# Altium footprint library d203.PcbLib: 102 footprints (part 1 of 7)
Each footprint in its own frame and in the unit in brackets; x right, y up, seen from the top. Pads: shape width x height; smd on the part's side, far side on the other; paste and mask are expansions set on the pad; w line width, h text height; cw(c..) or ccw(c..) is an arc to the next point about the centre after c.
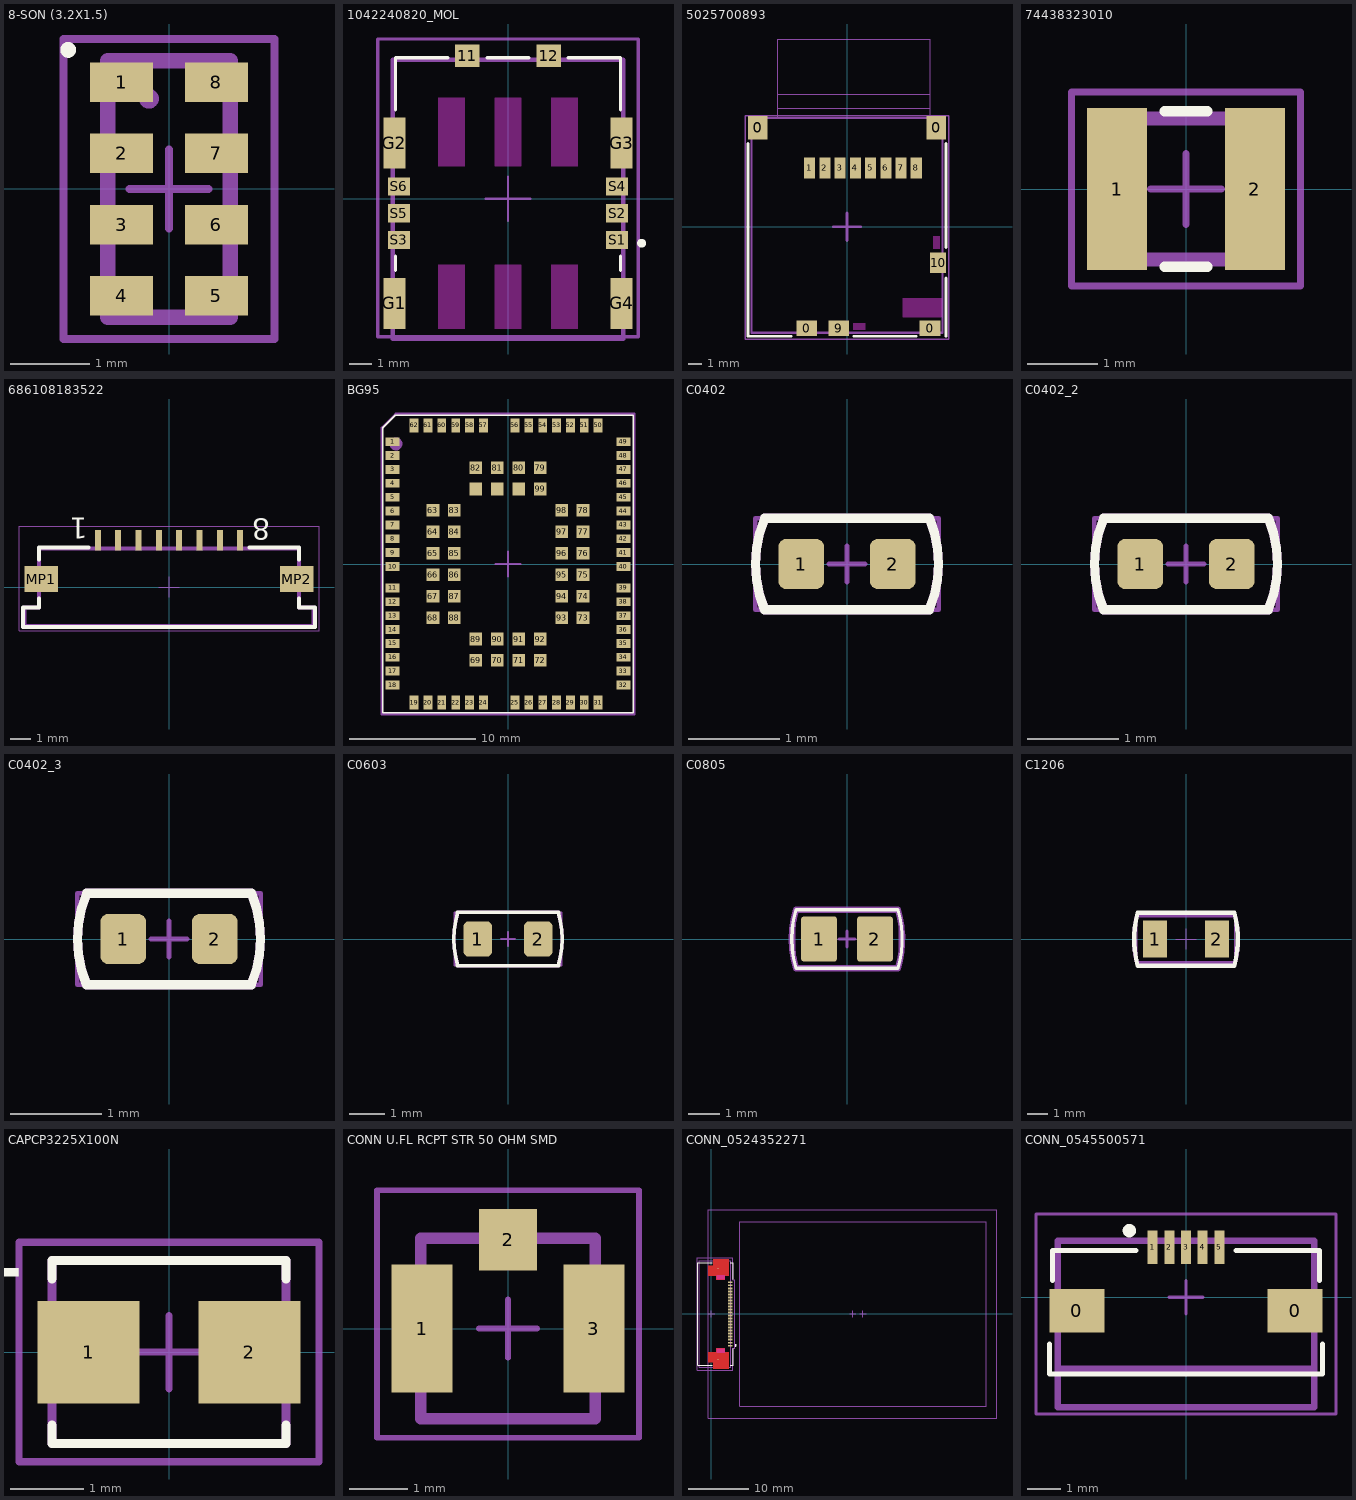
[diagram p0: the footprints below, top view; thin cyan lines are the x and y axes]

## 8-SON (3.2X1.5) [mm]
pads (8):
  rect 0.8x0.5 smd: 1(-0.6,1.35) 2(-0.6,0.45) 3(-0.6,-0.45) 4(-0.6,-1.35) 5(0.6,-1.35) 6(0.6,-0.45) 7(0.6,0.45) 8(0.6,1.35)
Top Overlay:
  circle w0.1: c-1.277,1.762 r0.05
Mechanical 14:
  circle w0.15: c-0.254,1.143 r0.05
  lines w0.2: -0.775,-1.625 0.775,-1.625 0.775,1.625 -0.775,1.625 -0.775,-1.625
  text "'.Designator'" at -0.254,1.27 h0.5
Mechanical 15:
  lines w0.1: -0.5,0 0.5,0 ; 0,-0.5 0,0.5 ; -1.335,-1.9 1.335,-1.9 1.335,1.9 -1.335,1.9 -1.335,-1.9
3D body "SON90P150X80_HS-9N.step": height 0.8, standoff 0, extent -0.775,-1.625 0.775,1.625

## 1042240820_MOL [mm]
pads (12):
  rect 1.1x1 smd: 11(-1.82,6.425) 12(1.82,6.425)
  rect 1x2.3 smd: G1(-5.1,-4.7) G2(-5.1,2.5) G3(5.1,2.5) G4(5.1,-4.7)
  rect 1x0.8 smd paste+0: S1(4.9,-1.85)
  rect 1x0.813 smd paste+0: S2(4.9,-0.65) S3(-4.9,-1.85) S4(4.9,0.55) S5(-4.9,-0.65) S6(-4.9,0.55)
Top Layer keep-out:
  rectangle: -3.14,1.45 -1.94,4.55
  rectangle: 1.94,1.45 3.14,4.55
  rectangle: -0.6,1.45 0.6,4.55
  rectangle: -3.14,-5.85 -1.94,-2.95
  rectangle: 1.94,-5.85 3.14,-2.95
  rectangle: -0.6,-5.85 0.6,-2.95
Top Overlay:
  circle w0.2: c6,-1.998 r0.1
  lines w0.152: -5.055,-3.212 -5.055,-2.589 ; -5.055,3.988 -5.055,6.327 -2.699,6.327 ; -0.941,6.327 0.941,6.327 ; 2.699,6.327 5.055,6.327 5.055,3.988 ; 5.055,-3.212 5.055,-2.589
Mechanical 14:
  lines w0.2: -5.175,-6.3 -5.175,6.25 5.175,6.25 5.175,-6.3 -5.175,-6.3
  text "S6" at -3.937,0.254 h0.5
  text "S5" at -3.937,-0.889 h0.5
  text "S4" at 4.699,0.254 h0.5
  text "S3" at -3.937,-2.159 h0.5
  text "S2" at 4.699,-0.889 h0.5
  text "S1" at 4.826,-2.159 h0.5
  text "'.Designator'" at -0.785,-2.085 h0.5
Mechanical 15:
  lines w0.1: -1,0 1,0 ; 0,-1 0,1
  lines w0.152: -5.849,-6.2 5.849,-6.2 5.849,7.174 -5.849,7.174 -5.849,-6.2
3D body "1042240820.stp": height 1.03, standoff -0.08, extent -5.175,-6.3 5.175,6.25

## 5025700893 [mm]
pads (14):
  rect 1.4x1.7 smd: 0(-6.45,7.15) 0(6.45,7.15)
  rect 1.5x1.15 smd: 0(-2.9,-7.325) 0(6,-7.325) 9(-0.6,-7.325)
  rect 0.8x1.5 smd: 1(-2.7,4.25) 2(-1.6,4.25) 3(-0.5,4.25) 4(0.6,4.25) 5(1.7,4.25) 6(2.8,4.25) 7(3.9,4.25) 8(5,4.25)
  rect 1.15x1.5 smd: 10(6.575,-2.6)
Top Layer keep-out:
  rectangle: 0.45,-7.45 1.35,-6.95
  rectangle: 4,-6.55 6.9,-5.15
  rectangle: 6.199,-1.6 6.699,-0.65
Top Overlay:
  lines w0.2: -7.15,6 -7.15,-7.9 -4.025,-7.9 ; 0.5,-7.9 4.975,-7.9 ; 7.15,-7.9 7.15,-3.7 ; 7.15,-1.5 7.15,6
Mechanical 14:
  lines w0.05: -5,7.85 -5,13.55 6,13.55 6,7.85 ; -5,8.55 6,8.55 ; -5,9.55 6,9.55
  lines w0.152: -6.9,-7.65 -6.9,7.85 6.9,7.85 6.9,-7.65 -6.9,-7.65
  text "'.Designator'" at -4.191,5.028 h0.5
  text "8" at 4.572,5.334 h1
  text "1" at -2.9,5.4 h1
Mechanical 15:
  lines w0.1: -7.35,-8.1 -7.35,8 7.35,8 7.35,-8.1 -7.35,-8.1
  lines w0.2: -1,0 1,0 ; 0,-1 0,1
3D body "5025700893.stp": height 1.8, standoff 0, extent -6.9,-7.65 6.9,7.85

## 74438323010 [mm]
pads (2):
  rect 0.85x2.3 smd: 1(-0.975,0) 2(0.975,0)
Top Overlay:
  lines w0.152: -0.3,-1.1 0.3,-1.1 ; -0.3,1.1 0.3,1.1
Mechanical 14:
  lines w0.2: -1.25,-1 -1.25,1 1.25,1 1.25,-1 -1.25,-1
  text ".Designator" at -1,-0.2 h0.5
Mechanical 15:
  lines w0.1: -0.5,0 0.5,0 ; 0,-0.5 0,0.5 ; -1.625,-1.375 -1.625,1.375 1.625,1.375 1.625,-1.375 -1.625,-1.375
3D body "74438323010_Download_STP_WE-MAPI-2510_rev1.stp": height 1, standoff 0, extent -1.25,-1 1.25,1

## 686108183522 [mm]
pads (10):
  rect 0.3x1 smd: 1(-3.5,2.3) 2(-2.5,2.3) 3(-1.5,2.3) 4(-0.5,2.3) 5(0.5,2.3) 6(1.5,2.3) 7(2.5,2.3) 8(3.5,2.3)
  rect 1.65x1.3 smd: MP1(-6.275,0.4) MP2(6.275,0.4)
Top Overlay:
  lines w0.2: -6.4,-0.55 -6.4,-1 -7.175,-1 -7.175,-1.95 7.175,-1.95 7.175,-1 6.4,-1 6.4,-0.55 ; -6.4,1.35 -6.4,1.95 -3.95,1.95 ; 3.95,1.95 6.4,1.95 6.4,1.35
  text "1" at -4.005,3.411 h1.02
  text "8" at 4.989,3.366 h1.02
Mechanical 14:
  lines w0.2: -7.1,-1 -6.4,-1 -6.4,1.9 6.4,1.9 6.4,-1 7.1,-1 7.1,-1.9 -7.1,-1.9 -7.1,-1 ; -7.1,-1 -7.1,-1
  text "'.Designator'" at 0.94,0.279 h0.5
  text "8" at 3.886,1.575 h1.02
  text "1" at -3.302,1.524 h1.02
Mechanical 15:
  lines w0.05: -0.5,0 0.5,0 ; 0,-0.5 0,0.5 ; -7.375,-2.15 7.375,-2.15 7.375,3 -7.375,3 -7.375,-2.15
3D body "686108183522.stp": height 1.24, standoff -0.01, extent -7.1,-1.9 7.1,2.35

## BG95 [mm]
pads (102):
  rect 1.1x0.7 smd mask+0.05: 1(-9.15,9.7) 2(-9.15,8.6) 3(-9.15,7.5) 4(-9.15,6.4) 5(-9.15,5.3) 6(-9.15,4.2) 7(-9.15,3.1) 8(-9.15,2) 9(-9.15,0.9) 10(-9.15,-0.2) 11(-9.15,-1.9) 12(-9.15,-3) 13(-9.15,-4.1) 14(-9.15,-5.2) 15(-9.15,-6.3) 16(-9.15,-7.4) 17(-9.15,-8.5) 18(-9.15,-9.6) 32(9.15,-9.6) 33(9.15,-8.5) 34(9.15,-7.4) 35(9.15,-6.3) 36(9.15,-5.2) 37(9.15,-4.1) 38(9.15,-3) 39(9.15,-1.9) 40(9.15,-0.2) 41(9.15,0.9) 42(9.15,2) 43(9.15,3.1) 44(9.15,4.2) 45(9.15,5.3) 46(9.15,6.4) 47(9.15,7.5) 48(9.15,8.6) 49(9.15,9.7)
  rect 0.7x1.1 smd mask+0.05: 19(-7.45,-11) 20(-6.35,-11) 21(-5.25,-11) 22(-4.15,-11) 23(-3.05,-11) 24(-1.95,-11) 25(0.55,-11) 26(1.65,-11) 27(2.75,-11) 28(3.85,-11) 29(4.95,-11) 30(6.05,-11) 31(7.15,-11) 50(7.15,11) 51(6.05,11) 52(4.95,11) 53(3.85,11) 54(2.75,11) 55(1.65,11) 56(0.55,11) 57(-1.95,11) 58(-3.05,11) 59(-4.15,11) 60(-5.25,11) 61(-6.35,11) 62(-7.45,11)
  rect 1x1 smd mask+0.05: 63(-5.95,4.25) 64(-5.95,2.55) 65(-5.95,0.85) 66(-5.95,-0.85) 67(-5.95,-2.55) 68(-5.95,-4.25) 69(-2.55,-7.65) 70(-0.85,-7.65) 71(0.85,-7.65) 72(2.55,-7.65) 73(5.95,-4.25) 74(5.95,-2.55) 75(5.95,-0.85) 76(5.95,0.85) 77(5.95,2.55) 78(5.95,4.25) 79(2.55,7.65) 80(0.85,7.65) 81(-0.85,7.65) 82(-2.55,7.65) 83(-4.25,4.25) 84(-4.25,2.55) 85(-4.25,0.85) 86(-4.25,-0.85) 87(-4.25,-2.55) 88(-4.25,-4.25) 89(-2.55,-5.95) 90(-0.85,-5.95) 91(0.85,-5.95) 92(2.55,-5.95) 93(4.25,-4.25) 94(4.25,-2.55) 95(4.25,-0.85) 96(4.25,0.85) 97(4.25,2.55) 98(4.25,4.25) 99(2.55,5.95) 100(0.85,5.95) 101(-0.85,5.95) 102(-2.55,5.95)
Top Overlay:
  lines w0.1: -9.95,-11.8 9.95,-11.8 9.95,11.8 -8.95,11.8 -9.95,10.8 -9.95,-11.8
Mechanical 14:
  circle w0.508: c-8.89,9.525 r0.254
  lines w0.2: -10,-11.9 10,-11.9 10,11.9 -8.9,11.9 -10,10.8 -10,-11.9
  text "'.Designator'" at -1,0 h0.5
Mechanical 15:
  lines w0.152: -1,0 1,0 ; 0,-1 0,1
3D body "LGA81C170P9X9_1990X2360X240.step": height 2.4, standoff 0, extent -10.025,-11.875 10.025,11.875

## C0402 [mm]
pads (2):
  rrect35% 0.5x0.55 smd: 1(-0.5,0) 2(0.5,0)
Top Overlay:
  lines w0.1: -0.901,-0.501 cw(c0.319,-0.004) -0.898,0.5 ; -0.9,-0.5 0.9,-0.5 ; -0.9,0.5 0.9,0.5 ; 0.898,-0.5 ccw(c-0.319,0.004) 0.901,0.501
Mechanical 14:
  lines w0.1: -0.901,-0.501 cw(c0.319,-0.004) -0.898,0.5 ; -0.9,-0.5 0.9,-0.5 ; -0.9,0.5 0.9,0.5 ; 0.898,-0.5 ccw(c-0.319,0.004) 0.901,0.501
  text ".Designator" at -0.8,-0.2 h0.5
Mechanical 15:
  lines w0.05: -1,-0.5 1,-0.5 1,0.5 -1,0.5 -1,-0.5
  lines w0.051: -0.2,0 0.2,0 ; 0,-0.2 0,0.2
3D body "C0402C104Z4VACTU.step": height 0.55, standoff 0, extent -0.525,-0.275 0.525,0.275

## C0402_2 [mm]
pads (2):
  rrect35% 0.5x0.55 smd: 1(-0.5,0) 2(0.5,0)
Top Overlay:
  lines w0.1: -0.901,-0.501 cw(c0.319,-0.004) -0.898,0.5 ; -0.9,-0.5 0.9,-0.5 ; -0.9,0.5 0.9,0.5 ; 0.898,-0.5 ccw(c-0.319,0.004) 0.901,0.501
Mechanical 14:
  lines w0.1: -0.901,-0.501 cw(c0.319,-0.004) -0.898,0.5 ; -0.9,-0.5 0.9,-0.5 ; -0.9,0.5 0.9,0.5 ; 0.898,-0.5 ccw(c-0.319,0.004) 0.901,0.501
  text ".Designator" at -0.8,-0.2 h0.5
Mechanical 15:
  lines w0.05: -1,-0.5 -1,0.5 1,0.5 1,-0.5 -1,-0.5
  lines w0.051: -0.2,0 0.2,0 ; 0,-0.2 0,0.2
3D body "C0402C104Z4VACTU.step": height 0.55, standoff 0, extent -0.525,-0.275 0.525,0.275

## C0402_3 [mm]
pads (2):
  rrect35% 0.5x0.55 smd: 1(-0.5,0) 2(0.5,0)
Top Overlay:
  lines w0.1: -0.901,-0.501 cw(c0.319,-0.004) -0.898,0.5 ; -0.9,-0.5 0.9,-0.5 ; -0.9,0.5 0.9,0.5 ; 0.898,-0.5 ccw(c-0.319,0.004) 0.901,0.501
Mechanical 14:
  lines w0.1: -0.901,-0.501 cw(c0.319,-0.004) -0.898,0.5 ; -0.9,-0.5 0.9,-0.5 ; -0.9,0.5 0.9,0.5 ; 0.898,-0.5 ccw(c-0.319,0.004) 0.901,0.501
  text ".Designator" at -0.8,-0.2 h0.5
Mechanical 15:
  lines w0.05: -1,-0.5 1,-0.5 1,0.5 -1,0.5 -1,-0.5
  lines w0.051: -0.2,0 0.2,0 ; 0,-0.2 0,0.2
3D body "C0402C104Z4VACTU.step": height 0.55, standoff 0, extent -0.525,-0.275 0.525,0.275

## C0603 [mm]
pads (2):
  rrect35% 0.8x0.991 smd: 1(-0.85,0) 2(0.85,0)
Top Overlay:
  lines w0.1: -1.416,-0.75 cw(c1.346,0) -1.416,0.75 1.416,0.75 cw(c-1.346,0) 1.416,-0.75 -1.416,-0.75
Mechanical 14:
  lines w0.1: -1.416,-0.75 cw(c1.346,0) -1.416,0.75 1.416,0.75 cw(c-1.346,0) 1.416,-0.75 -1.416,-0.75
  text ".Designator" at 1.143,0.254 h0.5
Mechanical 15:
  lines w0.05: -1.5,-0.75 -1.5,0.75 1.5,0.75 1.5,-0.75 -1.5,-0.75
  lines w0.051: -0.2,0 0.2,0 ; 0,-0.2 0,0.2
3D body "C0603C103M5RACTU.step": height 0.87, standoff 0, extent -0.875,-0.475 0.875,0.475

## C0805 [mm]
pads (2):
  rrect15% 1.15x1.45 smd: 1(-0.9,0) 2(0.9,0)
Top Overlay:
  lines w0.1: -1.64,-0.94 1.638,-0.94 ; -1.64,-0.937 cw(c1.524,0) -1.64,0.938 ; -1.64,0.94 1.64,0.94 ; 1.638,-0.945 ccw(c-1.524,0) 1.64,0.938
Mechanical 14:
  lines w0.2: -1.64,-0.94 1.638,-0.94 ; -1.64,-0.937 cw(c1.524,0) -1.64,0.938 ; -1.64,0.94 1.64,0.94 ; 1.638,-0.945 ccw(c-1.524,0) 1.64,0.938
  text ".Designator" at -0.762,-0.254 h0.5
Mechanical 15:
  lines w0.1: -0.25,0 0.25,0 ; 0,-0.25 0,0.25 ; -1.7,-0.889 1.7,-0.889 1.7,0.889 -1.7,0.889 -1.7,-0.889
3D body "C0805C101JAGACTU.step": height 0.88, standoff 0, extent -1.1,-0.725 1.1,0.725

## C1206 [mm]
pads (2):
  rect 1.15x1.8 smd: 1(-1.5,0) 2(1.5,0)
Top Overlay:
  lines w0.2: -2.345,1.262 ccw(c2.375,0) -2.338,-1.285 ; -2.345,1.27 2.345,1.27 ; -2.338,-1.295 2.338,-1.295 ; 2.338,-1.285 ccw(c-2.375,0) 2.345,1.262
Mechanical 14:
  lines w0.2: -2.375,-1.168 2.375,-1.168 ; -2.369,-1.167 cw(c2.375,0) -2.375,1.143 2.375,1.143 cw(c-2.375,0) 2.369,-1.167
  text ".Designator" at -1,-0.2 h0.5
Mechanical 15:
  lines w0.05: -0.5,0 0.5,0 ; 0,-0.5 0,0.5 ; -2.35,-1.15 2.35,-1.15 2.35,1.15 -2.35,1.15 -2.35,-1.15
3D body "C1206C102KGRACAUTO.step": height 1.75, standoff 0, extent -1.7,-0.889 1.7,0.911

## CAPCP3225X100N [mm]
pads (2):
  rect 1.4x1.4 smd: 1(-1.1,0) 2(1.1,0)
Top Overlay:
  lines w0.127: -1.6,-1 -1.6,-1.25 1.6,-1.25 1.6,-1 ; -1.6,1 -1.6,1.25 1.6,1.25 1.6,1
  text "+" at -1.905,1.524 h1.02
Mechanical 14:
  lines w0.127: -1.6,-1.25 -1.6,1.25 1.6,1.25 1.6,-1.25 -1.6,-1.25
  text "'.Designator'" at 0.762,0.127 h0.5
  text "+" at -2.54,0.508 h1.02
Mechanical 15:
  lines w0.1: -0.5,0 0.5,0 ; 0,-0.5 0,0.5 ; -2.05,-1.5 -2.05,1.5 2.05,1.5 2.05,-1.5 -2.05,-1.5
3D body "CPH3225A--3DModel-STEP-56544.STEP": height 1, standoff 0, extent -1.6,-1.25 1.6,1.25

## CONN U.FL RCPT STR 50 OHM SMD [mm]
pads (3):
  rect 1.05x2.2 smd: 1(-1.475,0) 3(1.475,0)
  rect 1x1.05 smd: 2(0,1.525)
Mechanical 14:
  lines w0.2: -1.5,-1.55 -1.5,1.55 1.5,1.55 1.5,-1.55 -1.5,-1.55
  text ".Designator" at 0.254,-0.635 h0.5
Mechanical 15:
  lines w0.1: -0.5,0 0.5,0 ; 0,-0.5 0,0.5 ; -2.25,-1.875 -2.25,2.375 2.25,2.375 2.25,-1.875 -2.25,-1.875
3D body "U.FL-R-SMT-1.stp": height 1.25, standoff 0, extent -1.5,-1.55 1.5,1.55

## CONN_0524352271 [mm]
pads (24):
  rect 0.8x0.3 smd mask+0.05: 1(3.1,-5.25) 2(3.1,-4.75) 3(3.1,-4.25) 4(3.1,-3.75) 5(3.1,-3.25) 6(3.1,-2.75) 7(3.1,-2.25) 8(3.1,-1.75) 9(3.1,-1.25) 10(3.1,-0.75) 11(3.1,-0.25) 12(3.1,0.25) 13(3.1,0.75) 14(3.1,1.25) 15(3.1,1.75) 16(3.1,2.25) 17(3.1,2.75) 18(3.1,3.25) 19(3.1,3.75) 20(3.1,4.25) 21(3.1,4.75) 22(3.1,5.25)
  rect 0.2x0.2 smd mask+0.05: 23(1.1,7.55) 24(1.1,-7.55)
Top Layer:
  region: 2.7,6.5 2.7,8.9 0.5,8.9 0.5,7.8 -0.35,7.8 -0.35,6.5
  region: 2.7,-6.5 2.7,-8.9 0.5,-8.9 0.5,-7.8 -0.35,-7.8 -0.35,-6.5
  pour cut-out: -0.55,6.3 -0.55,8 0.3,8 0.3,9.1 2.9,9.1 2.9,6.3 2.2,6.3 2.2,5.7 0.8,5.7 0.8,6.3
  pour cut-out: -0.55,-6.3 -0.55,-8 0.3,-8 0.3,-9.1 2.9,-9.1 2.9,-6.3 2.2,-6.3 2.2,-5.7 0.8,-5.7 0.8,-6.3
Top Layer keep-out:
  rectangle: 0.8,5.7 2.2,6.5
  rectangle: 0.8,-6.5 2.2,-5.7
Top Overlay:
  circle w0.2: c4.005,-5.207 r0.1
  lines w0.152: 0.1,-8.5 -2.3,-8.5 -2.3,8.5 0.1,8.5 ; 3.1,-8.5 3.6,-8.5 3.6,-5.761 ; 3.1,8.5 3.6,8.5 3.6,5.761
Top Paste:
  region: 2.7,-6.5 2.7,-8.9 0.5,-8.9 0.5,-7.8 -0.35,-7.8 -0.35,-6.5
  region: 2.7,6.5 2.7,8.9 0.5,8.9 0.5,7.8 -0.35,7.8 -0.35,6.5
Top Solder:
  region: 2.75,6.45 2.75,8.95 0.45,8.95 0.45,7.85 -0.4,7.85 -0.4,6.45
  region: 2.75,-6.45 2.75,-8.95 0.45,-8.95 0.45,-7.85 -0.4,-7.85 -0.4,-6.45
Mechanical 14:
  lines w0.2: -2,-8.8 -2,8.8 3.2,8.8 3.2,-8.8 -2,-8.8
  text "'.Designator'" at -0.375,0.705 h0.5
  text "1" at 1.465,-5.08 h1
  text "22" at 1.465,5.969 h1
Mechanical 15:
  lines w0.1: -0.5,0 0.5,0 ; 0,-0.5 0,0.5
  lines w0.152: -2.4,-9.3 -2.4,9.3 3.554,9.3 3.554,5.682 3.875,5.682 3.875,-5.682 3.554,-5.682 3.554,-9.3 3.1,-9.3 0.1,-9.3 -2.4,-9.3
Mechanical 19:
  lines w0.2: 22.9,0 23.9,0 ; 23.4,-0.5 23.4,0.5 ; 24.6,0 25.6,0 ; 25.1,-0.5 25.1,0.5 ; -0.5,-17.3 47.3,-17.3 47.3,17.3 -0.5,17.3 -0.5,-17.3 ; 4.7,-15.3 45.5,-15.3 45.5,15.3 4.7,15.3 4.7,-15.3
  text "Center of the panel" at 21.7,-9.1 h1
  text "Center of the screen" at 25.7,-8.9 h1
  text "Top Left Corner" at 43.9,-14.8 h1
3D body "524352271.stp": height 2.1, standoff 0.05, extent -2,-8.8 3.2,8.8
3D body: height -6, standoff -8, extent -0.5,-17.3 47.3,17.3

## CONN_0545500571 [mm]
pads (7):
  rect 1.65x1.3 smd mask+0.05: 0(-3.275,-0.4) 0(3.275,-0.4)
  rect 0.3x1 smd mask+0.05: 1(-1,1.5) 2(-0.5,1.5) 3(0,1.5) 4(0.5,1.5) 5(1,1.5)
Top Overlay:
  circle w0.2: c-1.7,2 r0.1
  lines w0.152: -4.1,-1.4 -4.1,-2.3 4.1,-2.3 4.1,-1.4 ; -4,0.5 -4,1.4 -1.5,1.4 ; 1.5,1.4 4,1.4 4,0.5
Mechanical 14:
  lines w0.2: -3.85,-2.15 3.85,-2.15 ; -3.85,-3.3 3.85,-3.3 3.85,1.7 -3.85,1.7 -3.85,-3.3
  text "'.Designator'" at 1.27,-0.254 h0.5
  text "1" at -1.016,0.762 h0.5
  text "5" at 1.397,0.762 h0.5
Mechanical 15:
  lines w0.1: -0.5,0 0.5,0 ; 0,-0.5 0,0.5 ; -4.5,-3.5 -4.5,2.5 4.5,2.5 4.5,-3.5 -4.5,-3.5
3D body "545500571.stp": height 1.2, standoff 0, extent -3.85,-3.3 3.85,1.7